# EAGLE library part MCU-ATSAM3X8C(LQFP100) (library SKAARHOJ)
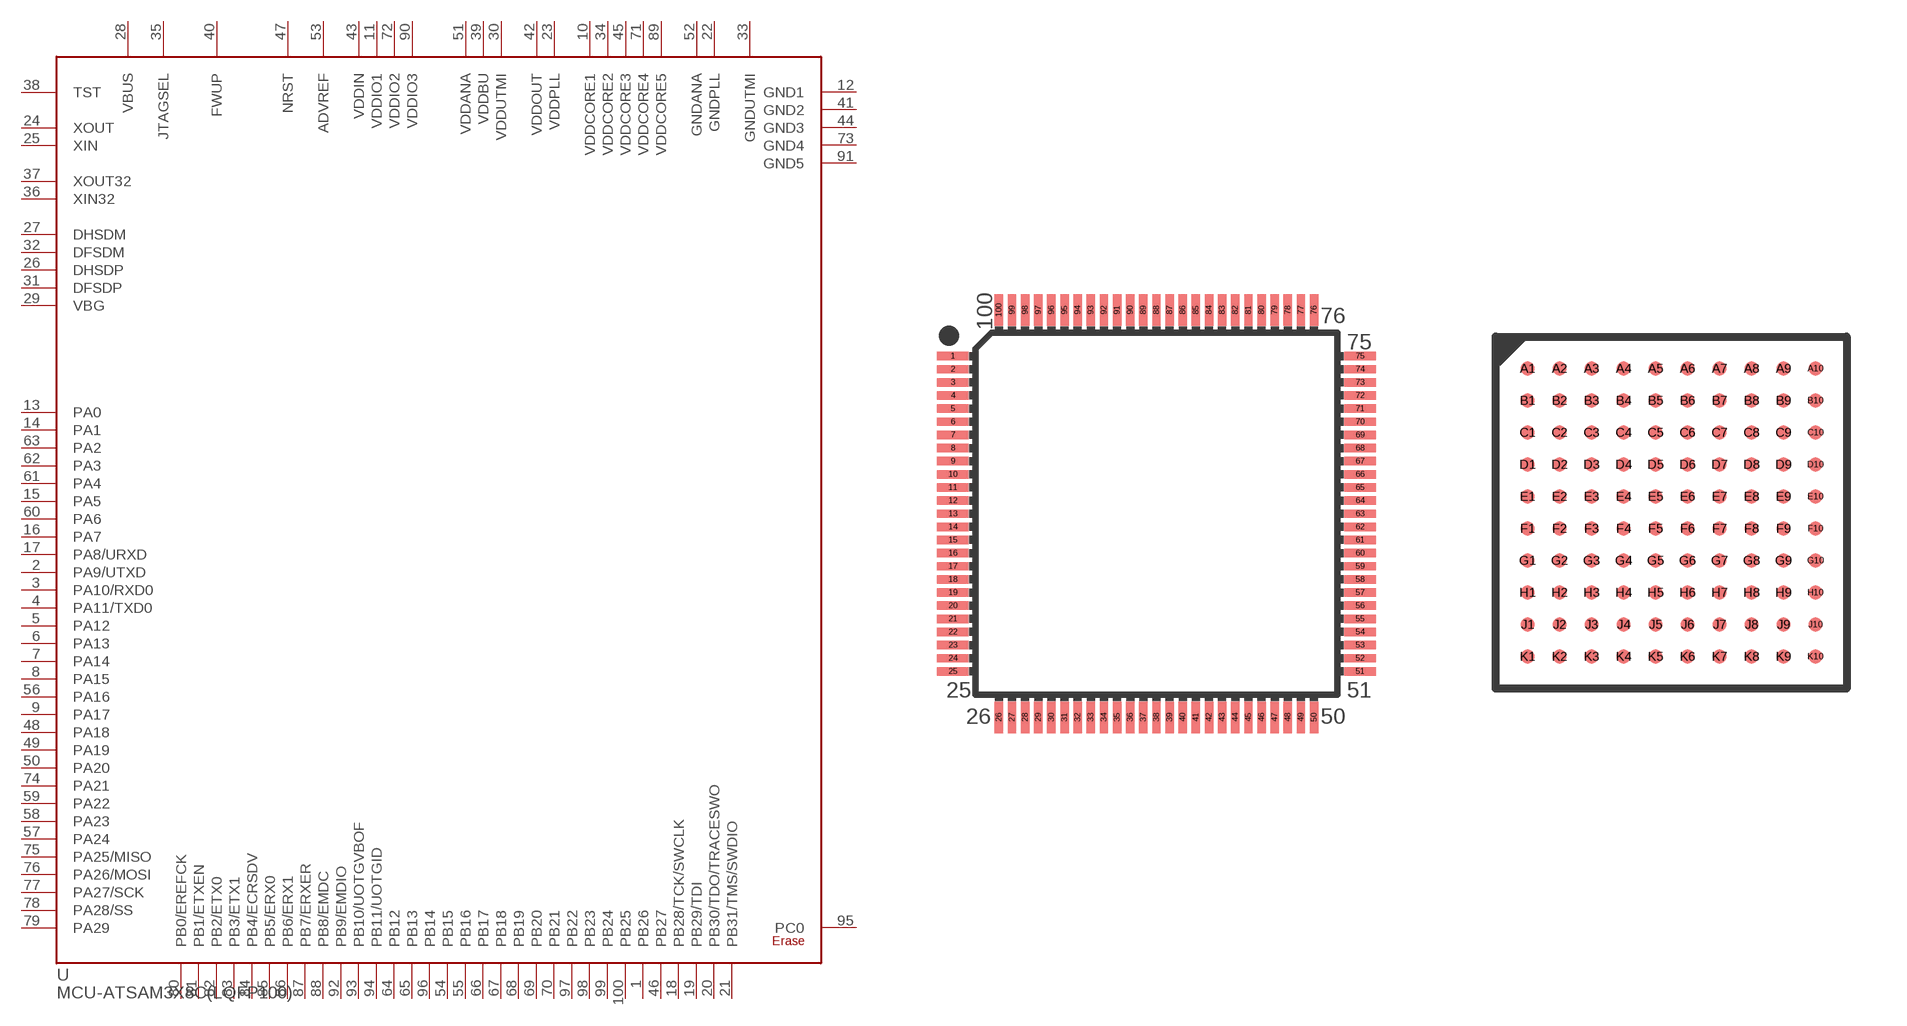
[diagram p76: symbol with the pads of LQFP100-0.5-13.8X13.8MM; footprints LQFP100-0.5-13.8X13.8MM, TFBGA100]

Designator prefix -

## MCU-ATSAM3X8C(LQFP100)  [LQFP100-0.5-13.8X13.8MM]
1  PB26
2  PA9/UTXD
3  PA10/RXD0
4  PA11/TXD0
5  PA12
6  PA13
7  PA14
8  PA15
9  PA17
10  VDDCORE1  in
11  VDDIO1  pwr
12  GND1  pwr
13  PA0
14  PA1
15  PA5
16  PA7
17  PA8/URXD
18  PB28/TCK/SWCLK
19  PB29/TDI
20  PB30/TDO/TRACESWO
21  PB31/TMS/SWDIO
22  GNDPLL  pwr
23  VDDPLL  in
24  XOUT  out
25  XIN  in
26  DHSDP
27  DHSDM
28  VBUS  pwr
29  VBG  pas
30  VDDUTMI  in
31  DFSDP  in
32  DFSDM  in
33  GNDUTMI  pwr
34  VDDCORE2  in
35  JTAGSEL  in
36  XIN32  out
37  XOUT32  out
38  TST  in
39  VDDBU  pwr
40  FWUP  in
41  GND2  pwr
42  VDDOUT  out
43  VDDIN  pwr
44  GND3  pwr
45  VDDCORE3  in
46  PB27
47  NRST
48  PA18
49  PA19
50  PA20
51  VDDANA  pwr
52  GNDANA  pwr
53  ADVREF  pwr
54  PB15
55  PB16
56  PA16
57  PA24
58  PA23
59  PA22
60  PA6
61  PA4
62  PA3
63  PA2
64  PB12
65  PB13
66  PB17
67  PB18
68  PB19
69  PB20
70  PB21
71  VDDCORE4  in
72  VDDIO2  pwr
73  GND4  pwr
74  PA21
75  PA25/MISO
76  PA26/MOSI
77  PA27/SCK
78  PA28/SS
79  PA29
80  PB0/EREFCK
81  PB1/ETXEN
82  PB2/ETX0
83  PB3/ETX1
84  PB4/ECRSDV
85  PB5/ERX0
86  PB6/ERX1
87  PB7/ERXER
88  PB8/EMDC
89  VDDCORE5  in
90  VDDIO3  pwr
91  GND5  pwr
92  PB9/EMDIO
93  PB10/UOTGVBOF
94  PB11/UOTGID
95  PC0
96  PB14
97  PB22
98  PB23
99  PB24
100  PB25

## MCU-ATSAM3X8C(LQFP100)TFBGA100  [TFBGA100]
A1  PB26
A2  PB24
A3  PB22
A4  PB14
A5  PC0
A6  PB9/EMDIO
A7  PB6/ERX1
A8  PB2/ETX0
A9  PA28/SS
A10  PA26/MOSI
B1  PA11/TXD0
B2  PB25
B3  PB23
B4  PA10/RXD0
B5  PA9/UTXD
B6  PB10/UOTGVBOF
B7  PB7/ERXER
B8  PB3/ETX1
B9  PA29
B10  PA27/SCK
C1  PA12
C2  PA14
C3  PA13
C4  PA17
C5  PA15
C6  PB11/UOTGID
C7  PB8/EMDC
C8  PB4/ECRSDV
C9  PB0/EREFCK
C10  PA25/MISO
D1  PA5
D2  PA0
D3  PA1
D4  VDDCORE1  in
D5  VDDIO1  pwr
D6  VDDCORE2  in
D7  VDDCORE3  in
D8  PB5/ERX0
D9  PB1/ETXEN
D10  PA21
E1  PB28/TCK/SWCLK
E2  PA7
E3  PA8/URXD
E4  VDDCORE4  in
E5  GND1  pwr
E6  GND2  pwr
E7  VDDIO2  pwr
E8  PB19
E9  PB20
E10  PB21
F1  VDDPLL  in
F2  GNDPLL  pwr
F3  PB30/TDO/TRACESWO
F4  PB29/TDI
F5  GND3  pwr
F6  GND4  pwr
F7  VDDIO3  pwr
F8  PB13
F9  PB17
F10  PB18
G1  XOUT  out
G2  VDDUTMI  in
G3  PB31/TMS/SWDIO
G4  GND5  pwr
G5  PB27
G6  PA18
G7  PA20
G8  PA3
G9  PA2
G10  PB12
H1  XIN  in
H2  GNDUTMI  pwr
H3  TST  in
H4  VDDBU  pwr
H5  FWUP  in
H6  NRST
H7  PA19
H8  PA4
H9  PA6
H10  PA22
J1  VBUS  pwr
J2  DHSDP
J3  DHSDM
J4  JTAGSEL  in
J5  XIN32  out
J6  VDDIN  pwr
J7  PA23
J8  PA24
J9  PB16
J10  PA16
K1  VBG  pas
K2  DFSDP  in
K3  DFSDM  in
K4  VDDCORE5  in
K5  XOUT32  out
K6  VDDOUT  out
K7  VDDANA  pwr
K8  GNDANA  pwr
K9  ADVREF  pwr
K10  PB15

## Footprint LQFP100-0.5-13.8X13.8MM (pad centres in mm)
smd 1.2 x 0.32: 1 -7.75,6; 2 -7.75,5.5; 3 -7.75,5; 4 -7.75,4.5; 5 -7.75,4; 6 -7.75,3.5; 7 -7.75,3; 8 -7.75,2.5; 9 -7.75,2; 10 -7.75,1.5; 11 -7.75,1; 12 -7.75,0.5; 13 -7.75,0; 14 -7.75,-0.5; 15 -7.75,-1; 16 -7.75,-1.5; 17 -7.75,-2; 18 -7.75,-2.5; 19 -7.75,-3; 20 -7.75,-3.5; 21 -7.75,-4; 22 -7.75,-4.5; 23 -7.75,-5; 24 -7.75,-5.5; 25 -7.75,-6; 51 7.75,-6; 52 7.75,-5.5; 53 7.75,-5; 54 7.75,-4.5; 55 7.75,-4; 56 7.75,-3.5; 57 7.75,-3; 58 7.75,-2.5; 59 7.75,-2; 60 7.75,-1.5; 61 7.75,-1; 62 7.75,-0.5; 63 7.75,0; 64 7.75,0.5; 65 7.75,1; 66 7.75,1.5; 67 7.75,2; 68 7.75,2.5; 69 7.75,3; 70 7.75,3.5; 71 7.75,4; 72 7.75,4.5; 73 7.75,5; 74 7.75,5.5; 75 7.75,6
smd 0.32 x 1.2: 26 -6,-7.75; 27 -5.5,-7.75; 28 -5,-7.75; 29 -4.5,-7.75; 30 -4,-7.75; 31 -3.5,-7.75; 32 -3,-7.75; 33 -2.5,-7.75; 34 -2,-7.75; 35 -1.5,-7.75; 36 -1,-7.75; 37 -0.5,-7.75; 38 0,-7.75; 39 0.5,-7.75; 40 1,-7.75; 41 1.5,-7.75; 42 2,-7.75; 43 2.5,-7.75; 44 3,-7.75; 45 3.5,-7.75; 46 4,-7.75; 47 4.5,-7.75; 48 5,-7.75; 49 5.5,-7.75; 50 6,-7.75; 76 6,7.75; 77 5.5,7.75; 78 5,7.75; 79 4.5,7.75; 80 4,7.75; 81 3.5,7.75; 82 3,7.75; 83 2.5,7.75; 84 2,7.75; 85 1.5,7.75; 86 1,7.75; 87 0.5,7.75; 88 0,7.75; 89 -0.5,7.75; 90 -1,7.75; 91 -1.5,7.75; 92 -2,7.75; 93 -2.5,7.75; 94 -3,7.75; 95 -3.5,7.75; 96 -4,7.75; 97 -4.5,7.75; 98 -5,7.75; 99 -5.5,7.75; 100 -6,7.75

## Footprint TFBGA100 (pad centres in mm)
TFBGA 100 Source: 6120s.pdf
smd 0.35 x 0.35: A1 -3.6,3.6; A2 -2.8,3.6; A3 -2,3.6; A4 -1.2,3.6; A5 -0.4,3.6; A6 0.4,3.6; A7 1.2,3.6; A8 2,3.6; A9 2.8,3.6; A10 3.6,3.6; B1 -3.6,2.8; B2 -2.8,2.8; B3 -2,2.8; B4 -1.2,2.8; B5 -0.4,2.8; B6 0.4,2.8; B7 1.2,2.8; B8 2,2.8; B9 2.8,2.8; B10 3.6,2.8; C1 -3.6,2; C2 -2.8,2; C3 -2,2; C4 -1.2,2; C5 -0.4,2; C6 0.4,2; C7 1.2,2; C8 2,2; C9 2.8,2; C10 3.6,2; D1 -3.6,1.2; D2 -2.8,1.2; D3 -2,1.2; D4 -1.2,1.2; D5 -0.4,1.2; D6 0.4,1.2; D7 1.2,1.2; D8 2,1.2; D9 2.8,1.2; D10 3.6,1.2; E1 -3.6,0.4; E2 -2.8,0.4; E3 -2,0.4; E4 -1.2,0.4; E5 -0.4,0.4; E6 0.4,0.4; E7 1.2,0.4; E8 2,0.4; E9 2.8,0.4; E10 3.6,0.4; F1 -3.6,-0.4; F2 -2.8,-0.4; F3 -2,-0.4; F4 -1.2,-0.4; F5 -0.4,-0.4; F6 0.4,-0.4; F7 1.2,-0.4; F8 2,-0.4; F9 2.8,-0.4; F10 3.6,-0.4; G1 -3.6,-1.2; G2 -2.8,-1.2; G3 -2,-1.2; G4 -1.2,-1.2; G5 -0.4,-1.2; G6 0.4,-1.2; G7 1.2,-1.2; G8 2,-1.2; G9 2.8,-1.2; G10 3.6,-1.2; H1 -3.6,-2; H2 -2.8,-2; H3 -2,-2; H4 -1.2,-2; H5 -0.4,-2; H6 0.4,-2; H7 1.2,-2; H8 2,-2; H9 2.8,-2; H10 3.6,-2; J1 -3.6,-2.8; J2 -2.8,-2.8; J3 -2,-2.8; J4 -1.2,-2.8; J5 -0.4,-2.8; J6 0.4,-2.8; J7 1.2,-2.8; J8 2,-2.8; J9 2.8,-2.8; J10 3.6,-2.8; K1 -3.6,-3.6; K2 -2.8,-3.6; K3 -2,-3.6; K4 -1.2,-3.6; K5 -0.4,-3.6; K6 0.4,-3.6; K7 1.2,-3.6; K8 2,-3.6; K9 2.8,-3.6; K10 3.6,-3.6